# Altium integrated library Dallas Interface Digital Potentiometer.IntLib: 89 symbols (part 2 of 2)
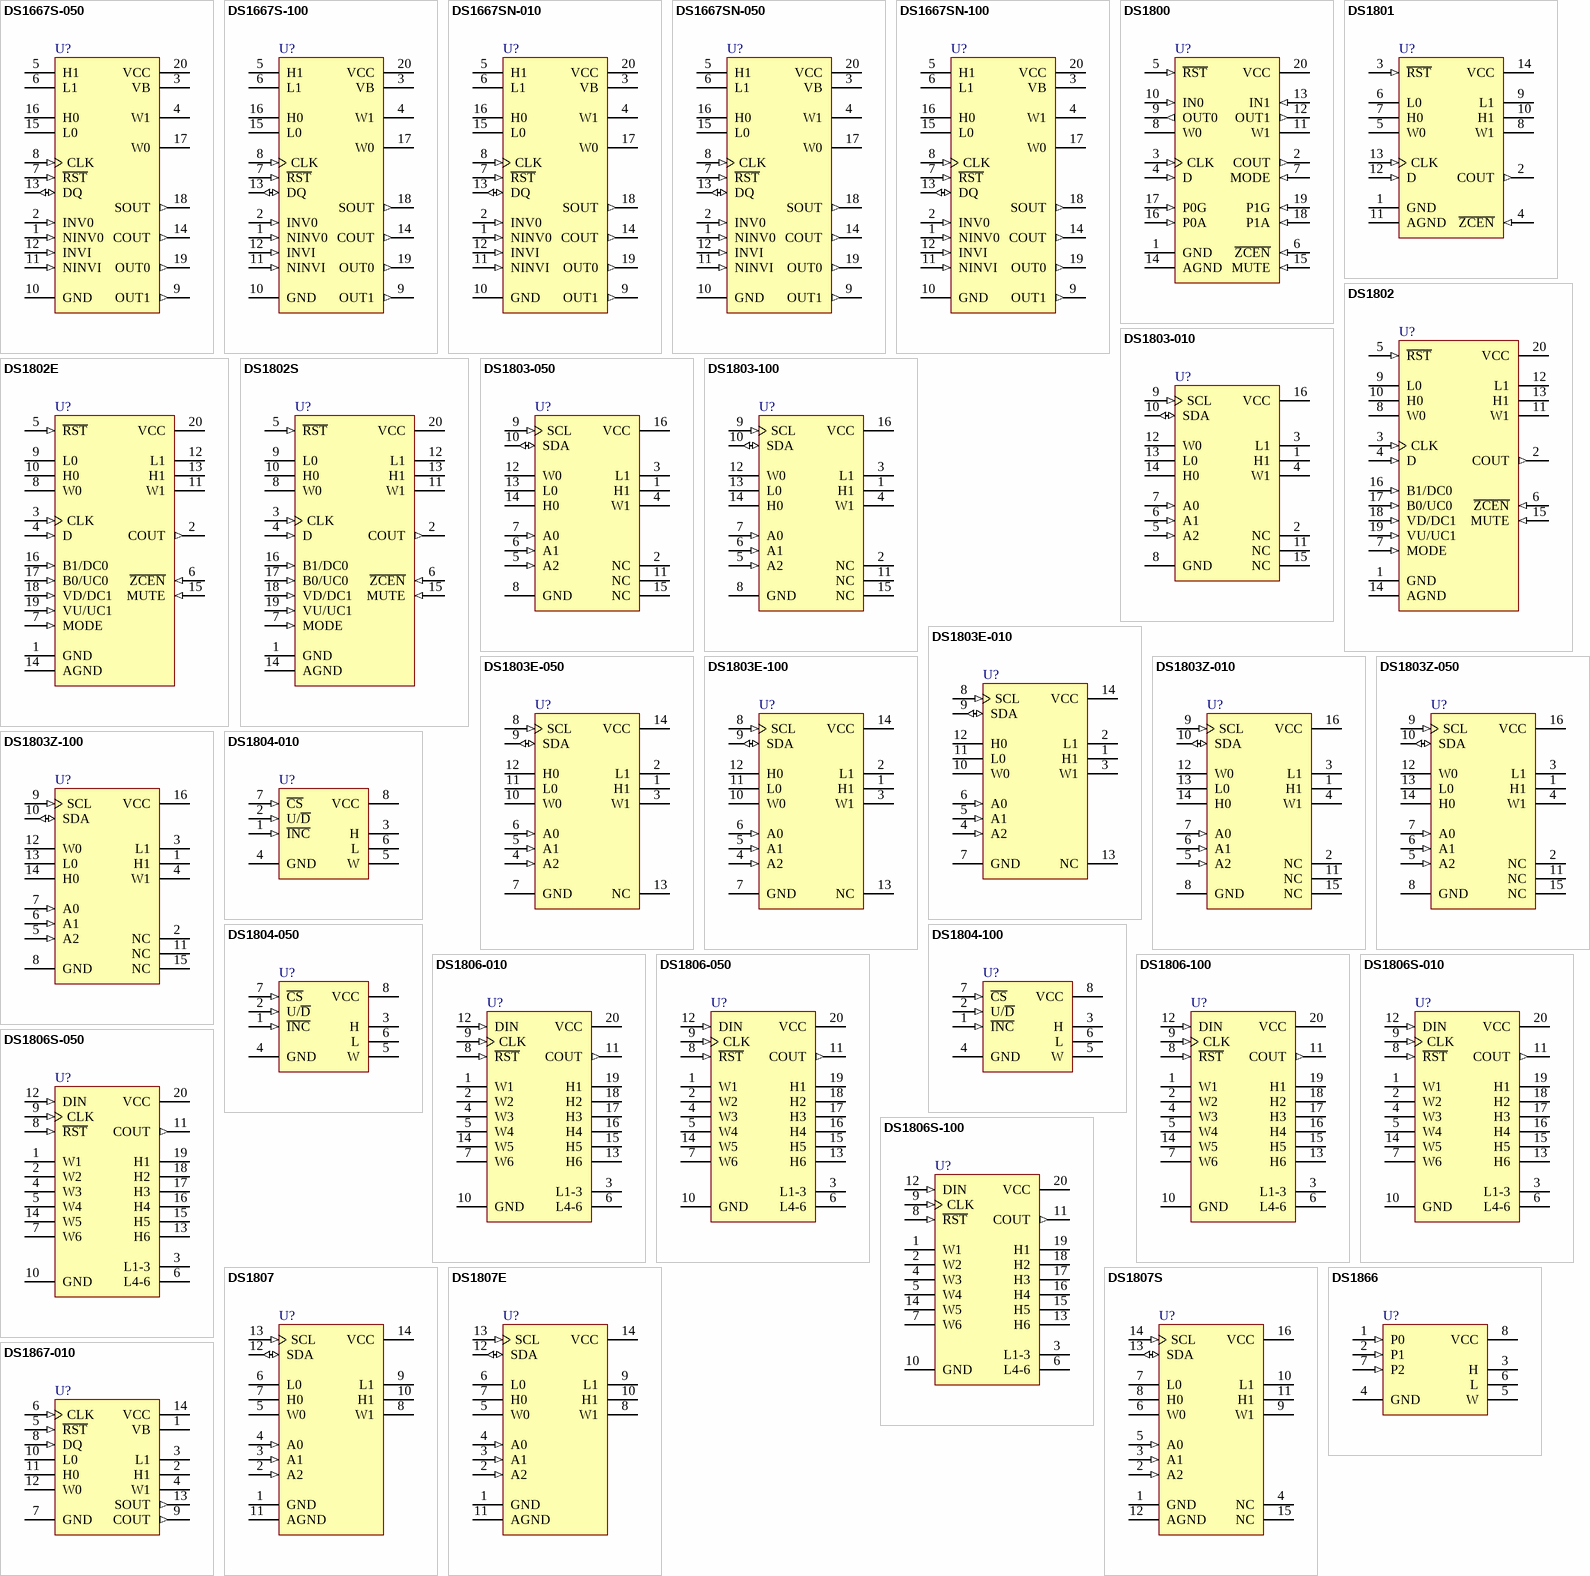
[diagram p3: symbols DS1667S-050 to DS1867-010]

## DS1806-010
designator U?
Digital Sextet Potentiometer; Published: 13-Oct-2000; LatestRevisionDate: 17-Jul-2002; LatestRevisionNote: Re-released for DXP Platform.; DatasheetVersion: 21-Oct-1999; PackageVersion: 1999; PackageReference: DIP20; Publisher: Altium Limited; PackageDescription: DIP, 20-Pin, Row Spacing 7.62 mm, Pitch 2.54 mm; Code_JEDEC: MS-001-AD; ComponentLink1Description: Manufacturer Link; ComponentLink1URL: http://www.maxim-ic.com/; ComponentLink2Description: Datasheet; ComponentLink2URL: http://pdfserv.maxim-ic.com/en/ds/DS1806.pdf
footprint DIP20 (DIP, 20-Leads, Row Spacing 7.62mm, Pitch 2.54mm, Body 25.53x6.48mm)
pins: 1 W1, 2 W2, 3 L1-3, 4 W3, 5 W4, 6 L4-6, 7 W6, 8 ~{RST} (in), 9 CLK (in), 10 GND (power), 11 COUT (out), 12 DIN (in), 13 H6, 14 W5, 15 H5, 16 H4, 17 H3, 18 H2, 19 H1, 20 VCC (power)

## DS1806-050
designator U?
Digital Sextet Potentiometer; Published: 13-Oct-2000; LatestRevisionDate: 17-Jul-2002; LatestRevisionNote: Re-released for DXP Platform.; DatasheetVersion: 21-Oct-1999; PackageVersion: 1999; PackageReference: DIP20; Publisher: Altium Limited; PackageDescription: DIP, 20-Pin, Row Spacing 7.62 mm, Pitch 2.54 mm; Code_JEDEC: MS-001-AD; ComponentLink1Description: Manufacturer Link; ComponentLink1URL: http://www.maxim-ic.com/; ComponentLink2Description: Datasheet; ComponentLink2URL: http://pdfserv.maxim-ic.com/en/ds/DS1806.pdf
footprint DIP20 (DIP, 20-Leads, Row Spacing 7.62mm, Pitch 2.54mm, Body 25.53x6.48mm)
pins: 1 W1, 2 W2, 3 L1-3, 4 W3, 5 W4, 6 L4-6, 7 W6, 8 ~{RST} (in), 9 CLK (in), 10 GND (power), 11 COUT (out), 12 DIN (in), 13 H6, 14 W5, 15 H5, 16 H4, 17 H3, 18 H2, 19 H1, 20 VCC (power)

## DS1806-100
designator U?
Digital Sextet Potentiometer; Published: 13-Oct-2000; LatestRevisionDate: 17-Jul-2002; LatestRevisionNote: Re-released for DXP Platform.; DatasheetVersion: 21-Oct-1999; PackageVersion: 1999; PackageReference: DIP20; Publisher: Altium Limited; PackageDescription: DIP, 20-Pin, Row Spacing 7.62 mm, Pitch 2.54 mm; Code_JEDEC: MS-001-AD; ComponentLink1Description: Manufacturer Link; ComponentLink1URL: http://www.maxim-ic.com/; ComponentLink2Description: Datasheet; ComponentLink2URL: http://pdfserv.maxim-ic.com/en/ds/DS1806.pdf
footprint DIP20 (DIP, 20-Leads, Row Spacing 7.62mm, Pitch 2.54mm, Body 25.53x6.48mm)
pins: 1 W1, 2 W2, 3 L1-3, 4 W3, 5 W4, 6 L4-6, 7 W6, 8 ~{RST} (in), 9 CLK (in), 10 GND (power), 11 COUT (out), 12 DIN (in), 13 H6, 14 W5, 15 H5, 16 H4, 17 H3, 18 H2, 19 H1, 20 VCC (power)

## DS1806S-010
designator U?
Digital Sextet Potentiometer; Published: 13-Oct-2000; LatestRevisionDate: 13-Apr-2006; LatestRevisionNote: IPC-7351 Footprint Added.; DatasheetVersion: 21-Oct-1999; PackageVersion: 1999; PackageReference: SOIC20; Publisher: Altium Limited; PackageDescription: 20-Pin Small Outline Integrated Circuit 1.27 mm Pitch; ComponentLink1Description: Manufacturer Link; ComponentLink1URL: http://www.maxim-ic.com/; ComponentLink2Description: Datasheet; ComponentLink2URL: http://pdfserv.maxim-ic.com/en/ds/DS1806.pdf
footprint SOIC20_N (SOIC, 20-Leads, Body 12.8x7.5mm, Pitch 1.27mm, IPC Medium Density)
footprint SOIC20_L (SOIC, 20-Leads, Body 12.8x7.5mm, Pitch 1.27mm, IPC High Density)
footprint SOIC20_M (SOIC, 20-Leads, Body 12.8x7.5mm, Pitch 1.27mm, IPC Low Density)
pins: 1 W1, 2 W2, 3 L1-3, 4 W3, 5 W4, 6 L4-6, 7 W6, 8 ~{RST} (in), 9 CLK (in), 10 GND (power), 11 COUT (out), 12 DIN (in), 13 H6, 14 W5, 15 H5, 16 H4, 17 H3, 18 H2, 19 H1, 20 VCC (power)

## DS1806S-050
designator U?
Digital Sextet Potentiometer; Published: 13-Oct-2000; LatestRevisionDate: 13-Apr-2006; LatestRevisionNote: IPC-7351 Footprint Added.; DatasheetVersion: 21-Oct-1999; PackageVersion: 1999; PackageReference: SOIC20; Publisher: Altium Limited; PackageDescription: 20-Pin Small Outline Integrated Circuit 1.27 mm Pitch; ComponentLink1Description: Manufacturer Link; ComponentLink1URL: http://www.maxim-ic.com/; ComponentLink2Description: Datasheet; ComponentLink2URL: http://pdfserv.maxim-ic.com/en/ds/DS1806.pdf
footprint SOIC20_N (SOIC, 20-Leads, Body 12.8x7.5mm, Pitch 1.27mm, IPC Medium Density)
footprint SOIC20_L (SOIC, 20-Leads, Body 12.8x7.5mm, Pitch 1.27mm, IPC High Density)
footprint SOIC20_M (SOIC, 20-Leads, Body 12.8x7.5mm, Pitch 1.27mm, IPC Low Density)
pins: 1 W1, 2 W2, 3 L1-3, 4 W3, 5 W4, 6 L4-6, 7 W6, 8 ~{RST} (in), 9 CLK (in), 10 GND (power), 11 COUT (out), 12 DIN (in), 13 H6, 14 W5, 15 H5, 16 H4, 17 H3, 18 H2, 19 H1, 20 VCC (power)

## DS1806S-100
designator U?
Digital Sextet Potentiometer; Published: 13-Oct-2000; LatestRevisionDate: 13-Apr-2006; LatestRevisionNote: IPC-7351 Footprint Added.; DatasheetVersion: 21-Oct-1999; PackageVersion: 1999; PackageReference: SOIC20; Publisher: Altium Limited; PackageDescription: 20-Pin Small Outline Integrated Circuit 1.27 mm Pitch; ComponentLink1Description: Manufacturer Link; ComponentLink1URL: http://www.maxim-ic.com/; ComponentLink2Description: Datasheet; ComponentLink2URL: http://pdfserv.maxim-ic.com/en/ds/DS1806.pdf
footprint SOIC20_N (SOIC, 20-Leads, Body 12.8x7.5mm, Pitch 1.27mm, IPC Medium Density)
footprint SOIC20_L (SOIC, 20-Leads, Body 12.8x7.5mm, Pitch 1.27mm, IPC High Density)
footprint SOIC20_M (SOIC, 20-Leads, Body 12.8x7.5mm, Pitch 1.27mm, IPC Low Density)
pins: 1 W1, 2 W2, 3 L1-3, 4 W3, 5 W4, 6 L4-6, 7 W6, 8 ~{RST} (in), 9 CLK (in), 10 GND (power), 11 COUT (out), 12 DIN (in), 13 H6, 14 W5, 15 H5, 16 H4, 17 H3, 18 H2, 19 H1, 20 VCC (power)

## DS1807
designator U?
Addressable Dual Audio Taper Potentiometer; Published: 13-Oct-2000; LatestRevisionDate: 17-Jul-2002; LatestRevisionNote: Re-released for DXP Platform.; DatasheetVersion: 21-Oct-1999; PackageVersion: 1999; PackageReference: DIP14; Publisher: Altium Limited; PackageDescription: DIP, 14-Pin, Row Spacing 7.62 mm, Pitch 2.54 mm; ComponentLink1Description: Manufacturer Link; ComponentLink1URL: http://www.maxim-ic.com/; ComponentLink2Description: Datasheet; ComponentLink2URL: http://pdfserv.maxim-ic.com/en/ds/DS1807.pdf
footprint DIP14 (DIP, 14-Leads, Row Spacing 7.62mm, Pitch 2.54mm, Body 19.31x6.35mm)
pins: 1 GND (power), 2 A2 (in), 3 A1 (in), 4 A0 (in), 5 W0, 6 L0, 7 H0, 8 W1, 9 L1, 10 H1, 11 AGND (power), 12 SDA (io), 13 SCL (in), 14 VCC (power)

## DS1807E
designator U?
Addressable Dual Audio Taper Potentiometer; Published: 13-Oct-2000; LatestRevisionDate: 20-Nov-2009; LatestRevisionNote: IPC-7351 Footprint Added.; DatasheetVersion: 21-Oct-1999; PackageReference: TSSOP14; Publisher: Altium Limited; PackageDescription: 14-Pin Thin Small Outline Package 0.65 mm Pitch; ComponentLink1Description: Manufacturer Link; ComponentLink1URL: http://www.maxim-ic.com/; ComponentLink2Description: Datasheet; ComponentLink2URL: http://pdfserv.maxim-ic.com/en/ds/DS1807.pdf
footprint TSSOP14_N (TSOP, 14-Leads, Body 5x4.4mm, Pitch 0.65mm, IPC Medium Density)
footprint TSSOP14_L (TSOP, 14-Leads, Body 5x4.4mm, Pitch 0.65mm, IPC High Density)
footprint TSSOP14_M (TSOP, 14-Leads, Body 5x4.4mm, Pitch 0.65mm, IPC Low Density)
pins: 1 GND (power), 2 A2 (in), 3 A1 (in), 4 A0 (in), 5 W0, 6 L0, 7 H0, 8 W1, 9 L1, 10 H1, 11 AGND (power), 12 SDA (io), 13 SCL (in), 14 VCC (power)

## DS1807S
designator U?
Addressable Dual Audio Taper Potentiometer; Note: Pin numbers 4 and 15 are Not Connected (NC); Published: 13-Oct-2000; LatestRevisionDate: 13-Apr-2006; LatestRevisionNote: IPC-7351 Footprint Added.; DatasheetVersion: 21-Oct-1999; PackageVersion: 1999; PackageReference: SOIC16W; Publisher: Altium Limited; PackageDescription: 16-Pin Small Outline Integrated Circuit 1.27 mm Pitch; ComponentLink1Description: Manufacturer Link; ComponentLink1URL: http://www.maxim-ic.com/; ComponentLink2Description: Datasheet; ComponentLink2URL: http://pdfserv.maxim-ic.com/en/ds/DS1807.pdf
footprint SOIC16W_N (SOIC, 16-Leads, Body 10.3x7.5mm, Pitch 1.27mm, IPC Medium Density)
footprint SOIC16W_L (SOIC, 16-Leads, Body 10.3x7.5mm, Pitch 1.27mm, IPC High Density)
footprint SOIC16W_M (SOIC, 16-Leads, Body 10.3x7.5mm, Pitch 1.27mm, IPC Low Density)
pins: 1 GND (power), 2 A2 (in), 3 A1 (in), 4 NC, 5 A0 (in), 6 W0, 7 L0, 8 H0, 9 W1, 10 L1, 11 H1, 12 AGND (power), 13 SDA (io), 14 SCL (in), 15 NC, 16 VCC (power)

## DS1866
designator U?
Log Trimmer Potentiometer; Published: 13-Oct-2000; LatestRevisionDate: 17-Jul-2002; LatestRevisionNote: Re-released for DXP Platform.; DatasheetVersion: 21-Oct-1999; PackageVersion: 1999; PackageReference: DIP8; Publisher: Altium Limited; PackageDescription: DIP, 8-Pin, Row Spacing 7.62 mm, Pitch 2.54 mm; ComponentLink1Description: Manufacturer Link; ComponentLink1URL: http://www.maxim-ic.com/; ComponentLink2Description: Datasheet; ComponentLink2URL: http://pdfserv.maxim-ic.com/en/ds/DS1866.pdf
footprint DIP8 (DIP, 8-Leads, Row Spacing 7.62mm, Pitch 2.54mm, Body 9.65x6.35mm)
pins: 1 P0 (in), 2 P1 (in), 3 H, 4 GND (power), 5 W, 6 L, 7 P2 (in), 8 VCC (power)

## DS1867-010
designator U?
Dual Digital Potentiometer with EEPROM; Published: 13-Oct-2000; LatestRevisionDate: 17-Jul-2002; LatestRevisionNote: Re-released for DXP Platform.; DatasheetVersion: 21-Oct-1999; PackageVersion: 1999; PackageReference: DIP14; Publisher: Altium Limited; PackageDescription: DIP, 14-Pin, Row Spacing 7.62 mm, Pitch 2.54 mm; ComponentLink1Description: Manufacturer Link; ComponentLink1URL: http://www.maxim-ic.com/; ComponentLink2Description: Datasheet; ComponentLink2URL: http://pdfserv.maxim-ic.com/en/ds/DS1867.pdf
footprint DIP14 (DIP, 14-Leads, Row Spacing 7.62mm, Pitch 2.54mm, Body 19.31x6.35mm)
pins: 1 VB (power), 2 H1, 3 L1, 4 W1, 5 ~{RST} (in), 6 CLK (in), 7 GND (power), 8 DQ (in), 9 COUT (out), 10 L0, 11 H0, 12 W0, 13 SOUT (out), 14 VCC (power)

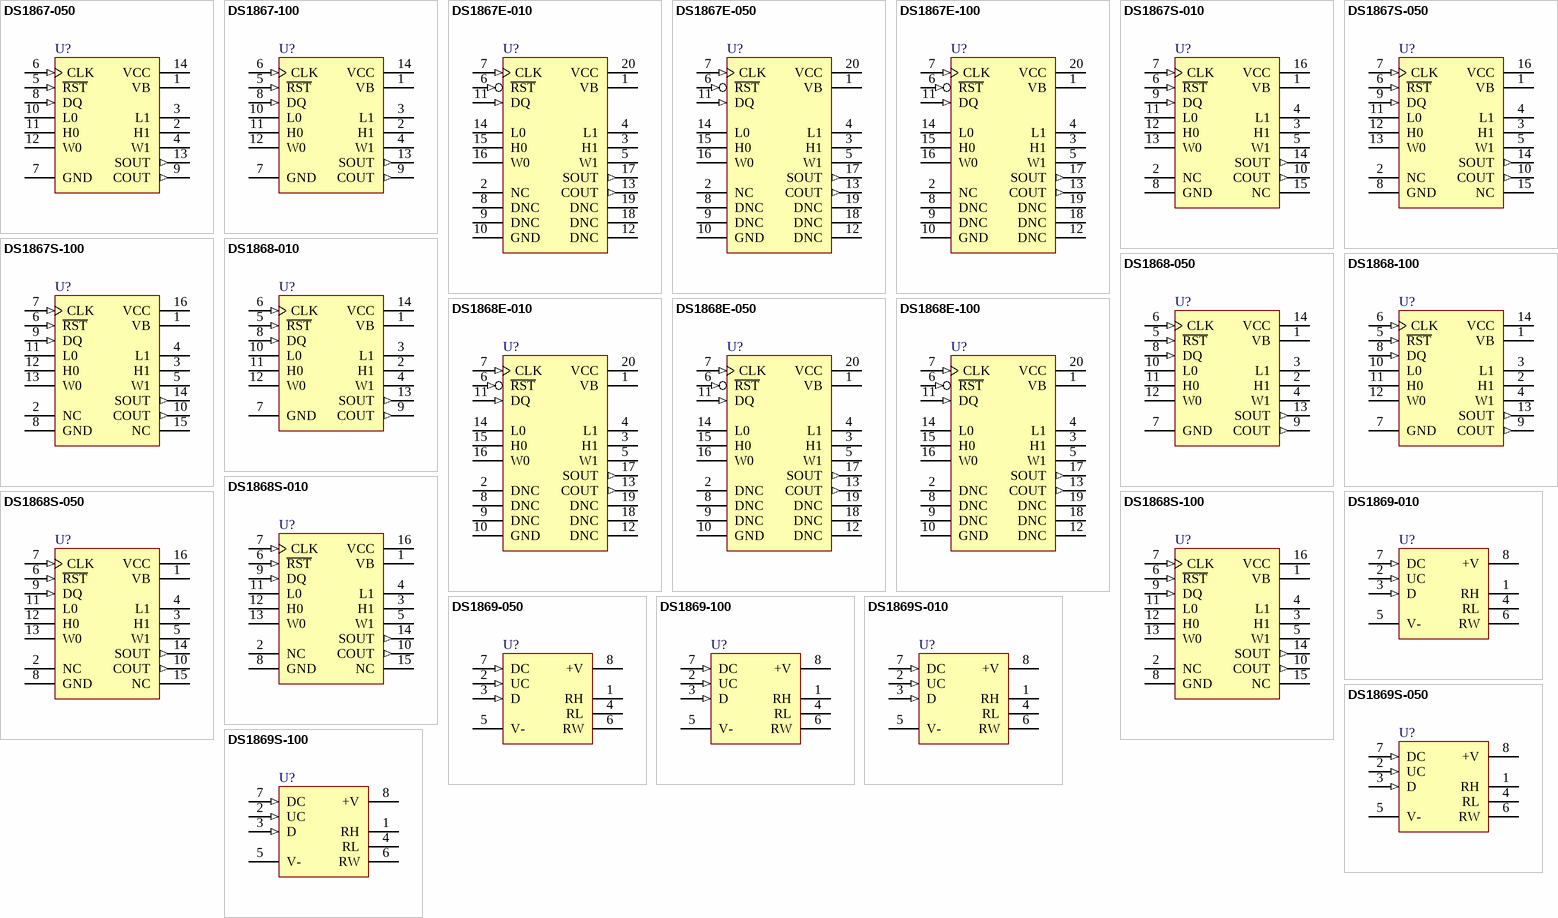
[diagram p2: symbols DS1867-050 to DS1869S-100]

## DS1867-050
designator U?
Dual Digital Potentiometer with EEPROM; Published: 13-Oct-2000; LatestRevisionDate: 17-Jul-2002; LatestRevisionNote: Re-released for DXP Platform.; DatasheetVersion: 21-Oct-1999; PackageVersion: 1999; PackageReference: DIP14; Publisher: Altium Limited; PackageDescription: DIP, 14-Pin, Row Spacing 7.62 mm, Pitch 2.54 mm; ComponentLink1Description: Manufacturer Link; ComponentLink1URL: http://www.maxim-ic.com/; ComponentLink2Description: Datasheet; ComponentLink2URL: http://pdfserv.maxim-ic.com/en/ds/DS1867.pdf
footprint DIP14 (DIP, 14-Leads, Row Spacing 7.62mm, Pitch 2.54mm, Body 19.31x6.35mm)
pins: 1 VB (power), 2 H1, 3 L1, 4 W1, 5 ~{RST} (in), 6 CLK (in), 7 GND (power), 8 DQ (in), 9 COUT (out), 10 L0, 11 H0, 12 W0, 13 SOUT (out), 14 VCC (power)

## DS1867-100
designator U?
Dual Digital Potentiometer with EEPROM; Published: 13-Oct-2000; LatestRevisionDate: 17-Jul-2002; LatestRevisionNote: Re-released for DXP Platform.; DatasheetVersion: 21-Oct-1999; PackageVersion: 1999; PackageReference: DIP14; Publisher: Altium Limited; PackageDescription: DIP, 14-Pin, Row Spacing 7.62 mm, Pitch 2.54 mm; ComponentLink1Description: Manufacturer Link; ComponentLink1URL: http://www.maxim-ic.com/; ComponentLink2Description: Datasheet; ComponentLink2URL: http://pdfserv.maxim-ic.com/en/ds/DS1867.pdf
footprint DIP14 (DIP, 14-Leads, Row Spacing 7.62mm, Pitch 2.54mm, Body 19.31x6.35mm)
pins: 1 VB (power), 2 H1, 3 L1, 4 W1, 5 ~{RST} (in), 6 CLK (in), 7 GND (power), 8 DQ (in), 9 COUT (out), 10 L0, 11 H0, 12 W0, 13 SOUT (out), 14 VCC (power)

## DS1867E-010
designator U?
Dual Digital Potentiometer with EEPROM; Note: Pin number 2 is Not Connected (NC) Do Not Connect (DNC) pins 8, 9, 12, 18 and 19.; Published: 13-Oct-2000; LatestRevisionDate: 20-Nov-2009; LatestRevisionNote: IPC-7351 Footprint Added.; DatasheetVersion: 21-Oct-1999; PackageReference: TSSOP20; Publisher: Altium Limited; PackageDescription: 20-Pin Thin Small Outline Package 0.65 mm Pitch; ComponentLink1Description: Manufacturer Link; ComponentLink1URL: http://www.maxim-ic.com/; ComponentLink2Description: Datasheet; ComponentLink2URL: http://pdfserv.maxim-ic.com/en/ds/DS1867.pdf
footprint TSSOP20_N (TSOP, 20-Leads, Body 6.5x4.4mm, Pitch 0.65mm, IPC Medium Density)
footprint TSSOP20_L (TSOP, 20-Leads, Body 6.5x4.4mm, Pitch 0.65mm, IPC High Density)
footprint TSSOP20_M (TSOP, 20-Leads, Body 6.5x4.4mm, Pitch 0.65mm, IPC Low Density)
pins: 1 VB (power), 2 NC, 3 H1, 4 L1, 5 W1, 6 ~{RST} (in), 7 CLK (in), 8 DNC, 9 DNC, 10 GND (power), 11 DQ (in), 12 DNC, 13 COUT (out), 14 L0, 15 H0, 16 W0, 17 SOUT (out), 18 DNC, 19 DNC, 20 VCC (power)

## DS1867E-050
designator U?
Dual Digital Potentiometer with EEPROM; Note: Pin number 2 is Not Connected (NC) Do Not Connect (DNC) pins 8, 9, 12, 18 and 19.; Published: 13-Oct-2000; LatestRevisionDate: 20-Nov-2009; LatestRevisionNote: IPC-7351 Footprint Added.; DatasheetVersion: 21-Oct-1999; PackageReference: TSSOP20; Publisher: Altium Limited; PackageDescription: 20-Pin Thin Small Outline Package 0.65 mm Pitch; ComponentLink1Description: Manufacturer Link; ComponentLink1URL: http://www.maxim-ic.com/; ComponentLink2Description: Datasheet; ComponentLink2URL: http://pdfserv.maxim-ic.com/en/ds/DS1867.pdf
footprint TSSOP20_N (TSOP, 20-Leads, Body 6.5x4.4mm, Pitch 0.65mm, IPC Medium Density)
footprint TSSOP20_L (TSOP, 20-Leads, Body 6.5x4.4mm, Pitch 0.65mm, IPC High Density)
footprint TSSOP20_M (TSOP, 20-Leads, Body 6.5x4.4mm, Pitch 0.65mm, IPC Low Density)
pins: 1 VB (power), 2 NC, 3 H1, 4 L1, 5 W1, 6 ~{RST} (in), 7 CLK (in), 8 DNC, 9 DNC, 10 GND (power), 11 DQ (in), 12 DNC, 13 COUT (out), 14 L0, 15 H0, 16 W0, 17 SOUT (out), 18 DNC, 19 DNC, 20 VCC (power)

## DS1867E-100
designator U?
Dual Digital Potentiometer with EEPROM; Note: Pin number 2 is Not Connected (NC) Do Not Connect (DNC) pins 8, 9, 12, 18 and 19.; Published: 13-Oct-2000; LatestRevisionDate: 20-Nov-2009; LatestRevisionNote: IPC-7351 Footprint Added.; DatasheetVersion: 21-Oct-1999; PackageReference: TSSOP20; Publisher: Altium Limited; PackageDescription: 20-Pin Thin Small Outline Package 0.65 mm Pitch; ComponentLink1Description: Manufacturer Link; ComponentLink1URL: http://www.maxim-ic.com/; ComponentLink2Description: Datasheet; ComponentLink2URL: http://pdfserv.maxim-ic.com/en/ds/DS1867.pdf
footprint TSSOP20_N (TSOP, 20-Leads, Body 6.5x4.4mm, Pitch 0.65mm, IPC Medium Density)
footprint TSSOP20_L (TSOP, 20-Leads, Body 6.5x4.4mm, Pitch 0.65mm, IPC High Density)
footprint TSSOP20_M (TSOP, 20-Leads, Body 6.5x4.4mm, Pitch 0.65mm, IPC Low Density)
pins: 1 VB (power), 2 NC, 3 H1, 4 L1, 5 W1, 6 ~{RST} (in), 7 CLK (in), 8 DNC, 9 DNC, 10 GND (power), 11 DQ (in), 12 DNC, 13 COUT (out), 14 L0, 15 H0, 16 W0, 17 SOUT (out), 18 DNC, 19 DNC, 20 VCC (power)

## DS1867S-010
designator U?
Dual Digital Potentiometer with EEPROM; Note: Pin numbers 2 and 15 are Not (internally) Connected (NC); Published: 13-Oct-2000; LatestRevisionDate: 13-Apr-2006; LatestRevisionNote: IPC-7351 Footprint Added.; DatasheetVersion: 21-Oct-1999; PackageVersion: 1999; PackageReference: SOIC16W; Publisher: Altium Limited; PackageDescription: 16-Pin Small Outline Integrated Circuit 1.27 mm Pitch; ComponentLink1Description: Manufacturer Link; ComponentLink1URL: http://www.maxim-ic.com/; ComponentLink2Description: Datasheet; ComponentLink2URL: http://pdfserv.maxim-ic.com/en/ds/DS1867.pdf
footprint SOIC16W_N (SOIC, 16-Leads, Body 10.3x7.5mm, Pitch 1.27mm, IPC Medium Density)
footprint SOIC16W_L (SOIC, 16-Leads, Body 10.3x7.5mm, Pitch 1.27mm, IPC High Density)
footprint SOIC16W_M (SOIC, 16-Leads, Body 10.3x7.5mm, Pitch 1.27mm, IPC Low Density)
pins: 1 VB (power), 2 NC, 3 H1, 4 L1, 5 W1, 6 ~{RST} (in), 7 CLK (in), 8 GND (power), 9 DQ (in), 10 COUT (out), 11 L0, 12 H0, 13 W0, 14 SOUT (out), 15 NC, 16 VCC (power)

## DS1867S-050
designator U?
Dual Digital Potentiometer with EEPROM; Note: Pin numbers 2 and 15 are Not (internally) Connected (NC); Published: 13-Oct-2000; LatestRevisionDate: 13-Apr-2006; LatestRevisionNote: IPC-7351 Footprint Added.; DatasheetVersion: 21-Oct-1999; PackageVersion: 1999; PackageReference: SOIC16W; Publisher: Altium Limited; PackageDescription: 16-Pin Small Outline Integrated Circuit 1.27 mm Pitch; ComponentLink1Description: Manufacturer Link; ComponentLink1URL: http://www.maxim-ic.com/; ComponentLink2Description: Datasheet; ComponentLink2URL: http://pdfserv.maxim-ic.com/en/ds/DS1867.pdf
footprint SOIC16W_N (SOIC, 16-Leads, Body 10.3x7.5mm, Pitch 1.27mm, IPC Medium Density)
footprint SOIC16W_L (SOIC, 16-Leads, Body 10.3x7.5mm, Pitch 1.27mm, IPC High Density)
footprint SOIC16W_M (SOIC, 16-Leads, Body 10.3x7.5mm, Pitch 1.27mm, IPC Low Density)
pins: 1 VB (power), 2 NC, 3 H1, 4 L1, 5 W1, 6 ~{RST} (in), 7 CLK (in), 8 GND (power), 9 DQ (in), 10 COUT (out), 11 L0, 12 H0, 13 W0, 14 SOUT (out), 15 NC, 16 VCC (power)

## DS1867S-100
designator U?
Dual Digital Potentiometer with EEPROM; Note: Pin numbers 2 and 15 are Not (internally) Connected (NC); Published: 13-Oct-2000; LatestRevisionDate: 13-Apr-2006; LatestRevisionNote: IPC-7351 Footprint Added.; DatasheetVersion: 21-Oct-1999; PackageVersion: 1999; PackageReference: SOIC16W; Publisher: Altium Limited; PackageDescription: 16-Pin Small Outline Integrated Circuit 1.27 mm Pitch; ComponentLink1Description: Manufacturer Link; ComponentLink1URL: http://www.maxim-ic.com/; ComponentLink2Description: Datasheet; ComponentLink2URL: http://pdfserv.maxim-ic.com/en/ds/DS1867.pdf
footprint SOIC16W_N (SOIC, 16-Leads, Body 10.3x7.5mm, Pitch 1.27mm, IPC Medium Density)
footprint SOIC16W_L (SOIC, 16-Leads, Body 10.3x7.5mm, Pitch 1.27mm, IPC High Density)
footprint SOIC16W_M (SOIC, 16-Leads, Body 10.3x7.5mm, Pitch 1.27mm, IPC Low Density)
pins: 1 VB (power), 2 NC, 3 H1, 4 L1, 5 W1, 6 ~{RST} (in), 7 CLK (in), 8 GND (power), 9 DQ (in), 10 COUT (out), 11 L0, 12 H0, 13 W0, 14 SOUT (out), 15 NC, 16 VCC (power)

## DS1868-010
designator U?
Dual Digital Potentiometer Chip; Published: 13-Oct-2000; LatestRevisionDate: 17-Jul-2002; LatestRevisionNote: Re-released for DXP Platform.; DatasheetVersion: 8-Oct-1999; PackageVersion: 1999; PackageReference: DIP14; Publisher: Altium Limited; PackageDescription: DIP, 14-Pin, Row Spacing 7.62 mm, Pitch 2.54 mm; ComponentLink1Description: Manufacturer Link; ComponentLink1URL: http://www.maxim-ic.com/; ComponentLink2Description: Datasheet; ComponentLink2URL: http://pdfserv.maxim-ic.com/en/ds/DS1868.pdf
footprint DIP14 (DIP, 14-Leads, Row Spacing 7.62mm, Pitch 2.54mm, Body 19.31x6.35mm)
pins: 1 VB (power), 2 H1, 3 L1, 4 W1, 5 ~{RST} (in), 6 CLK (in), 7 GND (power), 8 DQ (in), 9 COUT (out), 10 L0, 11 H0, 12 W0, 13 SOUT (out), 14 VCC (power)

## DS1868-050
designator U?
Dual Digital Potentiometer Chip; Published: 13-Oct-2000; LatestRevisionDate: 17-Jul-2002; LatestRevisionNote: Re-released for DXP Platform.; DatasheetVersion: 8-Oct-1999; PackageVersion: 1999; PackageReference: DIP14; Publisher: Altium Limited; PackageDescription: DIP, 14-Pin, Row Spacing 7.62 mm, Pitch 2.54 mm; ComponentLink1Description: Manufacturer Link; ComponentLink1URL: http://www.maxim-ic.com/; ComponentLink2Description: Datasheet; ComponentLink2URL: http://pdfserv.maxim-ic.com/en/ds/DS1868.pdf
footprint DIP14 (DIP, 14-Leads, Row Spacing 7.62mm, Pitch 2.54mm, Body 19.31x6.35mm)
pins: 1 VB (power), 2 H1, 3 L1, 4 W1, 5 ~{RST} (in), 6 CLK (in), 7 GND (power), 8 DQ (in), 9 COUT (out), 10 L0, 11 H0, 12 W0, 13 SOUT (out), 14 VCC (power)

## DS1868-100
designator U?
Dual Digital Potentiometer Chip; Published: 13-Oct-2000; LatestRevisionDate: 17-Jul-2002; LatestRevisionNote: Re-released for DXP Platform.; DatasheetVersion: 8-Oct-1999; PackageVersion: 1999; PackageReference: DIP14; Publisher: Altium Limited; PackageDescription: DIP, 14-Pin, Row Spacing 7.62 mm, Pitch 2.54 mm; ComponentLink1Description: Manufacturer Link; ComponentLink1URL: http://www.maxim-ic.com/; ComponentLink2Description: Datasheet; ComponentLink2URL: http://pdfserv.maxim-ic.com/en/ds/DS1868.pdf
footprint DIP14 (DIP, 14-Leads, Row Spacing 7.62mm, Pitch 2.54mm, Body 19.31x6.35mm)
pins: 1 VB (power), 2 H1, 3 L1, 4 W1, 5 ~{RST} (in), 6 CLK (in), 7 GND (power), 8 DQ (in), 9 COUT (out), 10 L0, 11 H0, 12 W0, 13 SOUT (out), 14 VCC (power)

## DS1868E-010
designator U?
Dual Digital Potentiometer Chip; Note: Do Not Connect (DNC) pins 2, 8, 9, 12, 18 and 19.; Published: 13-Oct-2000; LatestRevisionDate: 20-Nov-2009; LatestRevisionNote: IPC-7351 Footprint Added.; DatasheetVersion: 8-Oct-1999; PackageReference: TSSOP20; Publisher: Altium Limited; PackageDescription: 20-Pin Thin Small Outline Package 0.65 mm Pitch; ComponentLink1Description: Manufacturer Link; ComponentLink1URL: http://www.maxim-ic.com/; ComponentLink2Description: Datasheet; ComponentLink2URL: http://pdfserv.maxim-ic.com/en/ds/DS1868.pdf
footprint TSSOP20_N (TSOP, 20-Leads, Body 6.5x4.4mm, Pitch 0.65mm, IPC Medium Density)
footprint TSSOP20_L (TSOP, 20-Leads, Body 6.5x4.4mm, Pitch 0.65mm, IPC High Density)
footprint TSSOP20_M (TSOP, 20-Leads, Body 6.5x4.4mm, Pitch 0.65mm, IPC Low Density)
pins: 1 VB (power), 2 DNC, 3 H1, 4 L1, 5 W1, 6 ~{RST} (in), 7 CLK (in), 8 DNC, 9 DNC, 10 GND (power), 11 DQ (in), 12 DNC, 13 COUT (out), 14 L0, 15 H0, 16 W0, 17 SOUT (out), 18 DNC, 19 DNC, 20 VCC (power)

## DS1868E-050
designator U?
Dual Digital Potentiometer Chip; Note: Do Not Connect (DNC) pins 2, 8, 9, 12, 18 and 19.; Published: 13-Oct-2000; LatestRevisionDate: 20-Nov-2009; LatestRevisionNote: IPC-7351 Footprint Added.; DatasheetVersion: 8-Oct-1999; PackageReference: TSSOP20; Publisher: Altium Limited; PackageDescription: 20-Pin Thin Small Outline Package 0.65 mm Pitch; ComponentLink1Description: Manufacturer Link; ComponentLink1URL: http://www.maxim-ic.com/; ComponentLink2Description: Datasheet; ComponentLink2URL: http://pdfserv.maxim-ic.com/en/ds/DS1868.pdf
footprint TSSOP20_N (TSOP, 20-Leads, Body 6.5x4.4mm, Pitch 0.65mm, IPC Medium Density)
footprint TSSOP20_L (TSOP, 20-Leads, Body 6.5x4.4mm, Pitch 0.65mm, IPC High Density)
footprint TSSOP20_M (TSOP, 20-Leads, Body 6.5x4.4mm, Pitch 0.65mm, IPC Low Density)
pins: 1 VB (power), 2 DNC, 3 H1, 4 L1, 5 W1, 6 ~{RST} (in), 7 CLK (in), 8 DNC, 9 DNC, 10 GND (power), 11 DQ (in), 12 DNC, 13 COUT (out), 14 L0, 15 H0, 16 W0, 17 SOUT (out), 18 DNC, 19 DNC, 20 VCC (power)

## DS1868E-100
designator U?
Dual Digital Potentiometer Chip; Note: Do Not Connect (DNC) pins 2, 8, 9, 12, 18 and 19.; Published: 13-Oct-2000; LatestRevisionDate: 20-Nov-2009; LatestRevisionNote: IPC-7351 Footprint Added.; DatasheetVersion: 8-Oct-1999; PackageReference: TSSOP20; Publisher: Altium Limited; PackageDescription: 20-Pin Thin Small Outline Package 0.65 mm Pitch; ComponentLink1Description: Manufacturer Link; ComponentLink1URL: http://www.maxim-ic.com/; ComponentLink2Description: Datasheet; ComponentLink2URL: http://pdfserv.maxim-ic.com/en/ds/DS1868.pdf
footprint TSSOP20_N (TSOP, 20-Leads, Body 6.5x4.4mm, Pitch 0.65mm, IPC Medium Density)
footprint TSSOP20_L (TSOP, 20-Leads, Body 6.5x4.4mm, Pitch 0.65mm, IPC High Density)
footprint TSSOP20_M (TSOP, 20-Leads, Body 6.5x4.4mm, Pitch 0.65mm, IPC Low Density)
pins: 1 VB (power), 2 DNC, 3 H1, 4 L1, 5 W1, 6 ~{RST} (in), 7 CLK (in), 8 DNC, 9 DNC, 10 GND (power), 11 DQ (in), 12 DNC, 13 COUT (out), 14 L0, 15 H0, 16 W0, 17 SOUT (out), 18 DNC, 19 DNC, 20 VCC (power)

## DS1868S-010
designator U?
Dual Digital Potentiometer Chip; Note: Pin numbers 2 and 15 are Not (internally) Connected (NC); Published: 13-Oct-2000; LatestRevisionDate: 13-Apr-2006; LatestRevisionNote: IPC-7351 Footprint Added.; DatasheetVersion: 8-Oct-1999; PackageVersion: 1999; PackageReference: SOIC16W; Publisher: Altium Limited; PackageDescription: 16-Pin Small Outline Integrated Circuit 1.27 mm Pitch; ComponentLink1Description: Manufacturer Link; ComponentLink1URL: http://www.maxim-ic.com/; ComponentLink2Description: Datasheet; ComponentLink2URL: http://pdfserv.maxim-ic.com/en/ds/DS1868.pdf
footprint SOIC16W_N (SOIC, 16-Leads, Body 10.3x7.5mm, Pitch 1.27mm, IPC Medium Density)
footprint SOIC16W_L (SOIC, 16-Leads, Body 10.3x7.5mm, Pitch 1.27mm, IPC High Density)
footprint SOIC16W_M (SOIC, 16-Leads, Body 10.3x7.5mm, Pitch 1.27mm, IPC Low Density)
pins: 1 VB (power), 2 NC, 3 H1, 4 L1, 5 W1, 6 ~{RST} (in), 7 CLK (in), 8 GND (power), 9 DQ (in), 10 COUT (out), 11 L0, 12 H0, 13 W0, 14 SOUT (out), 15 NC, 16 VCC (power)

## DS1868S-050
designator U?
Dual Digital Potentiometer Chip; Note: Pin numbers 2 and 15 are Not (internally) Connected (NC); Published: 13-Oct-2000; LatestRevisionDate: 13-Apr-2006; LatestRevisionNote: IPC-7351 Footprint Added.; DatasheetVersion: 8-Oct-1999; PackageVersion: 1999; PackageReference: SOIC16W; Publisher: Altium Limited; PackageDescription: 16-Pin Small Outline Integrated Circuit 1.27 mm Pitch; ComponentLink1Description: Manufacturer Link; ComponentLink1URL: http://www.maxim-ic.com/; ComponentLink2Description: Datasheet; ComponentLink2URL: http://pdfserv.maxim-ic.com/en/ds/DS1868.pdf
footprint SOIC16W_N (SOIC, 16-Leads, Body 10.3x7.5mm, Pitch 1.27mm, IPC Medium Density)
footprint SOIC16W_L (SOIC, 16-Leads, Body 10.3x7.5mm, Pitch 1.27mm, IPC High Density)
footprint SOIC16W_M (SOIC, 16-Leads, Body 10.3x7.5mm, Pitch 1.27mm, IPC Low Density)
pins: 1 VB (power), 2 NC, 3 H1, 4 L1, 5 W1, 6 ~{RST} (in), 7 CLK (in), 8 GND (power), 9 DQ (in), 10 COUT (out), 11 L0, 12 H0, 13 W0, 14 SOUT (out), 15 NC, 16 VCC (power)

## DS1868S-100
designator U?
Dual Digital Potentiometer Chip; Note: Pin numbers 2 and 15 are Not (internally) Connected (NC); Published: 13-Oct-2000; LatestRevisionDate: 13-Apr-2006; LatestRevisionNote: IPC-7351 Footprint Added.; DatasheetVersion: 8-Oct-1999; PackageVersion: 1999; PackageReference: SOIC16W; Publisher: Altium Limited; PackageDescription: 16-Pin Small Outline Integrated Circuit 1.27 mm Pitch; ComponentLink1Description: Manufacturer Link; ComponentLink1URL: http://www.maxim-ic.com/; ComponentLink2Description: Datasheet; ComponentLink2URL: http://pdfserv.maxim-ic.com/en/ds/DS1868.pdf
footprint SOIC16W_N (SOIC, 16-Leads, Body 10.3x7.5mm, Pitch 1.27mm, IPC Medium Density)
footprint SOIC16W_L (SOIC, 16-Leads, Body 10.3x7.5mm, Pitch 1.27mm, IPC High Density)
footprint SOIC16W_M (SOIC, 16-Leads, Body 10.3x7.5mm, Pitch 1.27mm, IPC Low Density)
pins: 1 VB (power), 2 NC, 3 H1, 4 L1, 5 W1, 6 ~{RST} (in), 7 CLK (in), 8 GND (power), 9 DQ (in), 10 COUT (out), 11 L0, 12 H0, 13 W0, 14 SOUT (out), 15 NC, 16 VCC (power)

## DS1869-010
designator U?
3V Dallastat Electronic Digital Rheostat; Published: 13-Oct-2000; LatestRevisionDate: 17-Jul-2002; LatestRevisionNote: Re-released for DXP Platform.; DatasheetVersion: 26-Feb-1998; PackageVersion: 1999; PackageReference: DIP8; Publisher: Altium Limited; PackageDescription: DIP, 8-Pin, Row Spacing 7.62 mm, Pitch 2.54 mm; ComponentLink1Description: Manufacturer Link; ComponentLink1URL: http://www.maxim-ic.com/; ComponentLink2Description: Datasheet; ComponentLink2URL: http://pdfserv.maxim-ic.com/en/ds/DS1869.pdf
footprint DIP8 (DIP, 8-Leads, Row Spacing 7.62mm, Pitch 2.54mm, Body 9.65x6.35mm)
pins: 1 RH, 2 UC (in), 3 D (in), 4 RL, 5 V- (power), 6 RW, 7 DC (in), 8 +V (power)

## DS1869-050
designator U?
3V Dallastat Electronic Digital Rheostat; Published: 13-Oct-2000; LatestRevisionDate: 17-Jul-2002; LatestRevisionNote: Re-released for DXP Platform.; DatasheetVersion: 26-Feb-1998; PackageVersion: 1999; PackageReference: DIP8; Publisher: Altium Limited; PackageDescription: DIP, 8-Pin, Row Spacing 7.62 mm, Pitch 2.54 mm; ComponentLink1Description: Manufacturer Link; ComponentLink1URL: http://www.maxim-ic.com/; ComponentLink2Description: Datasheet; ComponentLink2URL: http://pdfserv.maxim-ic.com/en/ds/DS1869.pdf
footprint DIP8 (DIP, 8-Leads, Row Spacing 7.62mm, Pitch 2.54mm, Body 9.65x6.35mm)
pins: 1 RH, 2 UC (in), 3 D (in), 4 RL, 5 V- (power), 6 RW, 7 DC (in), 8 +V (power)

## DS1869-100
designator U?
3V Dallastat Electronic Digital Rheostat; Published: 13-Oct-2000; LatestRevisionDate: 17-Jul-2002; LatestRevisionNote: Re-released for DXP Platform.; DatasheetVersion: 26-Feb-1998; PackageVersion: 1999; PackageReference: DIP8; Publisher: Altium Limited; PackageDescription: DIP, 8-Pin, Row Spacing 7.62 mm, Pitch 2.54 mm; ComponentLink1Description: Manufacturer Link; ComponentLink1URL: http://www.maxim-ic.com/; ComponentLink2Description: Datasheet; ComponentLink2URL: http://pdfserv.maxim-ic.com/en/ds/DS1869.pdf
footprint DIP8 (DIP, 8-Leads, Row Spacing 7.62mm, Pitch 2.54mm, Body 9.65x6.35mm)
pins: 1 RH, 2 UC (in), 3 D (in), 4 RL, 5 V- (power), 6 RW, 7 DC (in), 8 +V (power)

## DS1869S-010
designator U?
3V Dallastat Electronic Digital Rheostat; Published: 13-Oct-2000; LatestRevisionDate: 13-Apr-2006; LatestRevisionNote: IPC-7351 Footprint Added.; DatasheetVersion: 26-Feb-1998; PackageVersion: 1999; PackageReference: SOIC8W; Publisher: Altium Limited; PackageDescription: 8-Pin Small Outline Package 1.27 mm Pitch; ComponentLink1Description: Manufacturer Link; ComponentLink1URL: http://www.maxim-ic.com/; ComponentLink2Description: Datasheet; ComponentLink2URL: http://pdfserv.maxim-ic.com/en/ds/DS1869.pdf
footprint SOIC8W_N (SOP, 8-Leads, Body 5.3x5.3mm, Pitch 1.27mm, IPC Medium Density)
footprint SOIC8W_L (SOP, 8-Leads, Body 5.3x5.3mm, Pitch 1.27mm, IPC High Density)
footprint SOIC8W_M (SOP, 8-Leads, Body 5.3x5.3mm, Pitch 1.27mm, IPC Low Density)
pins: 1 RH, 2 UC (in), 3 D (in), 4 RL, 5 V- (power), 6 RW, 7 DC (in), 8 +V (power)

## DS1869S-050
designator U?
3V Dallastat Electronic Digital Rheostat; Published: 13-Oct-2000; LatestRevisionDate: 13-Apr-2006; LatestRevisionNote: IPC-7351 Footprint Added.; DatasheetVersion: 26-Feb-1998; PackageVersion: 1999; PackageReference: SOIC8W; Publisher: Altium Limited; PackageDescription: 8-Pin Small Outline Package 1.27 mm Pitch; ComponentLink1Description: Manufacturer Link; ComponentLink1URL: http://www.maxim-ic.com/; ComponentLink2Description: Datasheet; ComponentLink2URL: http://pdfserv.maxim-ic.com/en/ds/DS1869.pdf
footprint SOIC8W_N (SOP, 8-Leads, Body 5.3x5.3mm, Pitch 1.27mm, IPC Medium Density)
footprint SOIC8W_L (SOP, 8-Leads, Body 5.3x5.3mm, Pitch 1.27mm, IPC High Density)
footprint SOIC8W_M (SOP, 8-Leads, Body 5.3x5.3mm, Pitch 1.27mm, IPC Low Density)
pins: 1 RH, 2 UC (in), 3 D (in), 4 RL, 5 V- (power), 6 RW, 7 DC (in), 8 +V (power)

## DS1869S-100
designator U?
3V Dallastat Electronic Digital Rheostat; Published: 13-Oct-2000; LatestRevisionDate: 13-Apr-2006; LatestRevisionNote: IPC-7351 Footprint Added.; DatasheetVersion: 26-Feb-1998; PackageVersion: 1999; PackageReference: SOIC8W; Publisher: Altium Limited; PackageDescription: 8-Pin Small Outline Package 1.27 mm Pitch; ComponentLink1Description: Manufacturer Link; ComponentLink1URL: http://www.maxim-ic.com/; ComponentLink2Description: Datasheet; ComponentLink2URL: http://pdfserv.maxim-ic.com/en/ds/DS1869.pdf
footprint SOIC8W_N (SOP, 8-Leads, Body 5.3x5.3mm, Pitch 1.27mm, IPC Medium Density)
footprint SOIC8W_L (SOP, 8-Leads, Body 5.3x5.3mm, Pitch 1.27mm, IPC High Density)
footprint SOIC8W_M (SOP, 8-Leads, Body 5.3x5.3mm, Pitch 1.27mm, IPC Low Density)
pins: 1 RH, 2 UC (in), 3 D (in), 4 RL, 5 V- (power), 6 RW, 7 DC (in), 8 +V (power)